# EAGLE library part RX4 (library puggleboard)
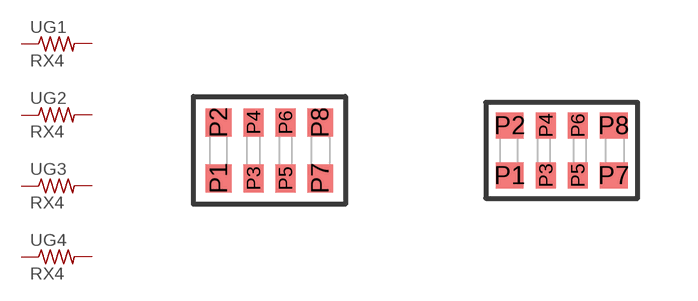
[diagram p19: symbol with the pads of RX4_0612; footprints RX4_0612, RX4_0603]

Designator prefix -; gates G1=R G2=R G3=R G4=R

## RX4_0612  [RX4_0612]
P1  G1:1  pas
P2  G1:2  pas
P3  G2:1  pas
P4  G2:2  pas
P5  G3:1  pas
P6  G3:2  pas
P7  G4:1  pas
P8  G4:2  pas

## RX4_0603  [RX4_0603]
Pads as for RX4_0612

## Footprint RX4_0612 (pad centres in mm)
smd 0.64 x 0.7: P1 -1.27,-0.7; P2 -1.27,0.7; P7 1.27,-0.7; P8 1.27,0.7
smd 0.5 x 0.7: P3 -0.4,-0.7; P4 -0.4,0.7; P5 0.4,-0.7; P6 0.4,0.7

## Footprint RX4_0603 (pad centres in mm)
smd 0.7 x 0.65: P1 -1.3,-0.625; P2 -1.3,0.625; P7 1.3,-0.625; P8 1.3,0.625
smd 0.5 x 0.65: P3 -0.4,-0.625; P4 -0.4,0.625; P5 0.4,-0.625; P6 0.4,0.625